# EAGLE library part BLUETOOTH (library daGloane)
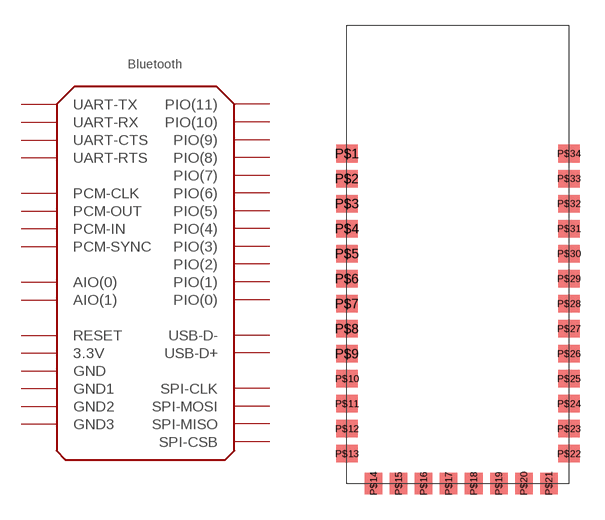
[diagram p7: symbol with the pads of BLUETOOTH; footprint BLUETOOTH]

Designator prefix -

## BLUETOOTH  [BLUETOOTH]
P$1  UART-TX  out
P$2  UART-RX  in
P$3  UART-CTS  in
P$4  UART-RTS  out
P$5  PCM-CLK
P$6  PCM-OUT  out
P$7  PCM-IN  in
P$8  PCM-SYNC
P$9  AIO(0)
P$10  AIO(1)
P$11  RESET  in
P$12  3.3V  pwr
P$13  GND  pwr
P$14  GND1  pwr
P$15  USB-D-
P$16  SPI-CSB  in
P$17  SPI-MOSI  in
P$18  SPI-MISO  out
P$19  SPI-CLK  in
P$20  USB-D+
P$21  GND2  pwr
P$22  GND3  pwr
P$23  PIO(0)
P$24  PIO(1)
P$25  PIO(2)
P$26  PIO(3)
P$27  PIO(4)
P$28  PIO(5)
P$29  PIO(6)
P$30  PIO(7)
P$31  PIO(8)
P$32  PIO(9)
P$33  PIO(10)
P$34  PIO(11)

## Footprint BLUETOOTH (pad centres in mm)
smd 1.3 x 1.05: P$1 -6.65,6.04; P$2 -6.65,4.54; P$3 -6.65,3.04; P$4 -6.65,1.54; P$5 -6.65,0.04; P$6 -6.65,-1.46; P$7 -6.65,-2.96; P$8 -6.65,-4.46; P$9 -6.65,-5.96; P$10 -6.65,-7.46; P$11 -6.65,-8.96; P$12 -6.65,-10.46; P$13 -6.65,-11.96; P$22 6.65,-11.96; P$23 6.65,-10.46; P$24 6.65,-8.96; P$25 6.65,-7.46; P$26 6.65,-5.96; P$27 6.65,-4.46; P$28 6.65,-2.96; P$29 6.65,-1.46; P$30 6.65,0.04; P$31 6.65,1.54; P$32 6.65,3.04; P$33 6.65,4.54; P$34 6.65,6.04
smd 1.05 x 1.3: P$14 -5.05,-13.75; P$15 -3.55,-13.75; P$16 -2.05,-13.75; P$17 -0.55,-13.75; P$18 0.95,-13.75; P$19 2.45,-13.75; P$20 3.95,-13.75; P$21 5.45,-13.75